# EAGLE library part STEPPER_DRIVER (library Zach)
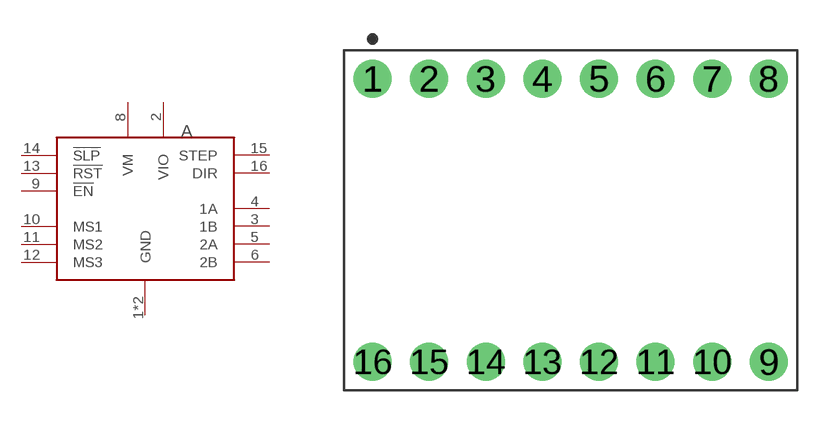
[diagram p2: symbol with the pads of STEPPER_DRIVER; footprint STEPPER_DRIVER]

Designator prefix A

## STEPPER_DRIVER  [STEPPER_DRIVER]
1  GND  pas
2  VIO  pwr
3  1B  out
4  1A  out
5  2A  out
6  2B  out
7  GND  pas
8  VM  pwr
9  !EN  in
10  MS1  in
11  MS2  in
12  MS3  in
13  !RST  in
14  !SLP  in
15  STEP  in
16  DIR  in

## Footprint STEPPER_DRIVER (pad centres in mm)
Double-row, 16-pin Receptacle Header (Female) Straight, 12.70 mm (0.50 in) row pitch, 2.54 mm (0.10 in) col pitch, 2.54 mm insulator length, 20.32 X 15.24 X 2.54 mm body Double-row (2X8), 16-pin Receptacle Header (Female) Straight package with 12.70 mm (0.50 in) row pitch, 2.54 mm (0.10 in) col pitch, 0.64 mm lead width, 3.00 mm tail length and 2.54 mm insulator length with overall size 20.32 X 15.24 X 2.54 mm, pin pattern - clockwise from top left
drill 1.105 pad 1.705: 1 -8.89,6.35; 2 -6.35,6.35; 3 -3.81,6.35; 4 -1.27,6.35; 5 1.27,6.35; 6 3.81,6.35; 7 6.35,6.35; 8 8.89,6.35; 9 8.89,-6.35; 10 6.35,-6.35; 11 3.81,-6.35; 12 1.27,-6.35; 13 -1.27,-6.35; 14 -3.81,-6.35; 15 -6.35,-6.35; 16 -8.89,-6.35